# Altium schematic symbol library Sensor_Humidity.SchLib: 15 symbols
Pins are listed as number, name and electrical type; pins without a type are passive.

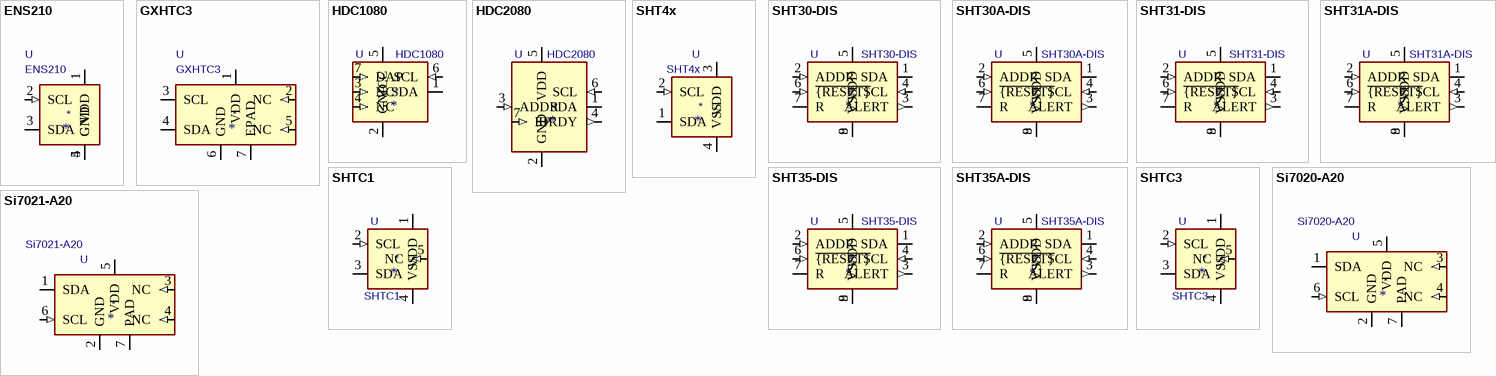
[diagram p0: symbols ENS210 to Si7021-A20]

## ENS210
designator *  value ENS210  Reference: U
Relative Humidity and Temperature Sensor with I2C Interface; ki_keywords: relative humidity temperature i2c pre-calibrated; ki_fp_filters: AMS?QFN*EP*2x2mm*P0.95mm*; Footprint: Package_DFN_QFN:AMS_QFN-4-1EP_2x2mm_P0.95mm_EP0.7x1.6mm; Datasheet: http://ams.com/eng/Products/Environmental-Sensors/Relative-Humidity-and-Temperature-Sensors/ENS210; Description_: Relative Humidity and Temperature Sensor with I2C Interface
pins: 1 VDD (power), 2 SCL (in), 3 SDA (io), 4 GND (power), 5 GND

## GXHTC3
designator *  value GXHTC3  Reference: U
Relative Humidity and Temperature Sensor, I2C Interface, 1.62..5.5V supply, DFN-6; ki_keywords: GXCAS pre-calibrated; ki_fp_filters: *DFN*2x2mm*P0.5mm*0.7x1.6mm*; Footprint: Package_DFN_QFN:DFN-6-1EP_2x2mm_P0.5mm_EP0.7x1.6mm; Datasheet: http://www.junmintech.com/UploadFiles/Product/20211129145204_37021.pdf; Description_: Relative Humidity and Temperature Sensor, I2C Interface, 1.62..5.5V supply, DFN-6
pins: 1 VDD (power), 2 NC (in), 3 SCL (io), 4 SDA (io), 5 NC (in), 6 GND (power), 7 EPAD

## HDC1080
designator *  value HDC1080  Reference: U
Low Power,High Accuracy Digital Humidity Sensor with Temperature Sensor; ki_keywords: Temperature Humidity Sensor; ki_fp_filters: Package*SON:Texas*PWSON*N6*; Footprint: Package_SON:Texas_PWSON-N6; Datasheet: http://www.ti.com/lit/ds/symlink/hdc1080.pdf; Description_: Low Power,High Accuracy Digital Humidity Sensor with Temperature Sensor
pins: 1 SDA (io), 2 GND (power), 3 NC (in), 4 NC (in), 5 VCC (power), 6 SCL (in), 7 DAP (in)

## HDC2080
designator *  value HDC2080  Reference: U
Low Power Humidity and Temperature Sensor; ki_keywords: Temperature Humidity Sensor; ki_fp_filters: Sensor*Humidity:Texas*S*PWSON*N6*HDC2080*; Footprint: Sensor_Humidity:Texas_S-PWSON-N6-HDC2080; Datasheet: http://www.ti.com/lit/ds/symlink/hdc2080.pdf; Description_: Low Power Humidity and Temperature Sensor
pins: 1 SDA (io), 2 GND (power), 3 ADDR (in), 4 DRDY (out), 5 VDD (power), 6 SCL (in), 7 EP (in)

## SHT4x
designator *  value SHT4x  Reference: U
Digital Humidity and Temperature Sensor, ±1%RH, ±0.1°C, I2C, 1.08-3.6V, 16bit, DFN-4; ki_keywords: Sensirion environment environmental measurement digital SHT40 SHT41 SHT45; ki_fp_filters: Sensirion?DFN*1.5x1.5mm*P0.8mm*SHT4x*; Footprint: Sensor_Humidity:Sensirion_DFN-4_1.5x1.5mm_P0.8mm_SHT4x_NoCentralPad; Datasheet: https://sensirion.com/media/documents/33FD6951/624C4357/Datasheet_SHT4x.pdf; Description_: Digital Humidity and Temperature Sensor, ±1%RH, ±0.1°C, I2C, 1.08-3.6V, 16bit, DFN-4
pins: 1 SDA (io), 2 SCL (in), 3 VDD (power), 4 VSS (power)

## SHT30-DIS
designator *  value SHT30-DIS  Reference: U
I²C humidity and temperature sensor, ±2%RH, ±0.2°C, DFN-8; ki_keywords: digital temperature humidity i2c; ki_fp_filters: Sensirion*DFN*1EP*2.5x2.5mm*P0.5mm*; Footprint: Sensor_Humidity:Sensirion_DFN-8-1EP_2.5x2.5mm_P0.5mm_EP1.1x1.7mm; Datasheet: https://www.sensirion.com/fileadmin/user_upload/customers/sensirion/Dokumente/2_Humidity_Sensors/Datasheets/Sensirion_Humidity_Sensors_SHT3x_Datasheet_digital.pdf; Description_: I²C humidity and temperature sensor, ±2%RH, ±0.2°C, DFN-8
pins: 1 SDA (io), 2 ADDR (in), 3 ALERT (out), 4 SCL (in), 5 VDD (power), 6 ~{{RESET}} (in), 7 R, 8 VSS (power), 9 VSS

## SHT30A-DIS
designator *  value SHT30A-DIS  Reference: U
I²C humidity and temperature sensor, ±3%RH, ±0.3°C, AEQ-100, DFN-8; ki_keywords: digital temperature humidity automotive i2c; ki_fp_filters: Sensirion*DFN*1EP*2.5x2.5mm*P0.5mm*; Footprint: Sensor_Humidity:Sensirion_DFN-8-1EP_2.5x2.5mm_P0.5mm_EP1.1x1.7mm; Datasheet: https://www.sensirion.com/fileadmin/user_upload/customers/sensirion/Dokumente/2_Humidity_Sensors/Datasheets/Sensirion_Humidity_Sensors_SHT3xA_Datasheet.pdf; Description_: I²C humidity and temperature sensor, ±3%RH, ±0.3°C, AEQ-100, DFN-8
pins: 1 SDA (io), 2 ADDR (in), 3 ALERT (out), 4 SCL (in), 5 VDD (power), 6 ~{{RESET}} (in), 7 R, 8 VSS (power), 9 VSS

## SHT31-DIS
designator *  value SHT31-DIS  Reference: U
I²C humidity and temperature sensor, ±2%RH, ±0.2°C, DFN-8; ki_keywords: digital temperature humidity i2c; ki_fp_filters: Sensirion*DFN*1EP*2.5x2.5mm*P0.5mm*; Footprint: Sensor_Humidity:Sensirion_DFN-8-1EP_2.5x2.5mm_P0.5mm_EP1.1x1.7mm; Datasheet: https://www.sensirion.com/fileadmin/user_upload/customers/sensirion/Dokumente/2_Humidity_Sensors/Datasheets/Sensirion_Humidity_Sensors_SHT3x_Datasheet_digital.pdf; Description_: I²C humidity and temperature sensor, ±2%RH, ±0.2°C, DFN-8
pins: 1 SDA (io), 2 ADDR (in), 3 ALERT (out), 4 SCL (in), 5 VDD (power), 6 ~{{RESET}} (in), 7 R, 8 VSS (power), 9 VSS

## SHT31A-DIS
designator *  value SHT31A-DIS  Reference: U
I²C humidity and temperature sensor, ±2%RH, ±0.3°C, AEQ-100, DFN-8; ki_keywords: digital temperature humidity automotive i2c; ki_fp_filters: Sensirion*DFN*1EP*2.5x2.5mm*P0.5mm*; Footprint: Sensor_Humidity:Sensirion_DFN-8-1EP_2.5x2.5mm_P0.5mm_EP1.1x1.7mm; Datasheet: https://www.sensirion.com/fileadmin/user_upload/customers/sensirion/Dokumente/2_Humidity_Sensors/Datasheets/Sensirion_Humidity_Sensors_SHT3xA_Datasheet.pdf; Description_: I²C humidity and temperature sensor, ±2%RH, ±0.3°C, AEQ-100, DFN-8
pins: 1 SDA (io), 2 ADDR (in), 3 ALERT (out), 4 SCL (in), 5 VDD (power), 6 ~{{RESET}} (in), 7 R, 8 VSS (power), 9 VSS

## SHT35-DIS
designator *  value SHT35-DIS  Reference: U
I²C humidity and temperature sensor, ±1.5%RH, ±0.1°C, DFN-8; ki_keywords: digital temperature humidity i2c; ki_fp_filters: Sensirion*DFN*1EP*2.5x2.5mm*P0.5mm*; Footprint: Sensor_Humidity:Sensirion_DFN-8-1EP_2.5x2.5mm_P0.5mm_EP1.1x1.7mm; Datasheet: https://www.sensirion.com/fileadmin/user_upload/customers/sensirion/Dokumente/2_Humidity_Sensors/Datasheets/Sensirion_Humidity_Sensors_SHT3x_Datasheet_digital.pdf; Description_: I²C humidity and temperature sensor, ±1.5%RH, ±0.1°C, DFN-8
pins: 1 SDA (io), 2 ADDR (in), 3 ALERT (out), 4 SCL (in), 5 VDD (power), 6 ~{{RESET}} (in), 7 R, 8 VSS (power), 9 VSS

## SHT35A-DIS
designator *  value SHT35A-DIS  Reference: U
I²C humidity and temperature sensor, ±1.5%RH, ±0.2°C, AEQ-100, DFN-8; ki_keywords: digital temperature humidity automotive i2c; ki_fp_filters: Sensirion*DFN*1EP*2.5x2.5mm*P0.5mm*; Footprint: Sensor_Humidity:Sensirion_DFN-8-1EP_2.5x2.5mm_P0.5mm_EP1.1x1.7mm; Datasheet: https://www.sensirion.com/fileadmin/user_upload/customers/sensirion/Dokumente/2_Humidity_Sensors/Datasheets/Sensirion_Humidity_Sensors_SHT3xA_Datasheet.pdf; Description_: I²C humidity and temperature sensor, ±1.5%RH, ±0.2°C, AEQ-100, DFN-8
pins: 1 SDA (io), 2 ADDR (in), 3 ALERT (out), 4 SCL (in), 5 VDD (power), 6 ~{{RESET}} (in), 7 R, 8 VSS (power), 9 VSS

## SHTC1
designator *  value SHTC1  Reference: U
Humidity and Temperature Sensor, ±3%RH, ±0.3°C, I2C, 1.62-1.98V, DFN-4; ki_keywords: Sensirion environment environmental measurement digital; ki_fp_filters: Sensirion*DFN*1EP*2x2mm*P1mm*EP0.7x1.6mm*; Footprint: Sensor_Humidity:Sensirion_DFN-4-1EP_2x2mm_P1mm_EP0.7x1.6mm; Datasheet: https://www.sensirion.com/fileadmin/user_upload/customers/sensirion/Dokumente/0_Datasheets/Humidity/Sensirion_Humidity_Sensors_SHTC1_Datasheet.pdf; Description_: Humidity and Temperature Sensor, ±3%RH, ±0.3°C, I2C, 1.62-1.98V, DFN-4
pins: 1 VDD (power), 2 SCL (in), 3 SDA (io), 4 VSS (power), 5 NC (in)

## SHTC3
designator *  value SHTC3  Reference: U
Humidity and Temperature Sensor, ±2%RH, ±0.2°C, I2C, 1.62-3.6V, DFN-4; ki_keywords: Sensirion environment environmental measurement digital; ki_fp_filters: Sensirion*DFN*1EP*2x2mm*P1mm*EP0.7x1.6mm*; Footprint: Sensor_Humidity:Sensirion_DFN-4-1EP_2x2mm_P1mm_EP0.7x1.6mm; Datasheet: https://www.sensirion.com/fileadmin/user_upload/customers/sensirion/Dokumente/0_Datasheets/Humidity/Sensirion_Humidity_Sensors_SHTC3_Datasheet.pdf; Description_: Humidity and Temperature Sensor, ±2%RH, ±0.2°C, I2C, 1.62-3.6V, DFN-4
pins: 1 VDD (power), 2 SCL (in), 3 SDA (io), 4 VSS (power), 5 NC (in)

## Si7020-A20
designator *  value Si7020-A20  Reference: U
I2C Humidity and Temperature Sensor, DFN-6; ki_keywords: I2C Humidity Temperature Sensor; ki_fp_filters: DFN*1EP*3x3mm*P1mm*; Footprint: Package_DFN_QFN:DFN-6-1EP_3x3mm_P1mm_EP1.5x2.4mm; Datasheet: https://www.silabs.com/documents/public/data-sheets/Si7020-A20.pdf; Description_: I2C Humidity and Temperature Sensor, DFN-6
pins: 1 SDA (io), 2 GND (power), 3 NC (in), 4 NC (in), 5 VDD (power), 6 SCL (in), 7 PAD

## Si7021-A20
designator *  value Si7021-A20  Reference: U
I2C Humidity and Temperature Sensor, DFN-6; ki_keywords: I2C Humidity Temperature Sensor; ki_fp_filters: DFN*1EP*3x3mm*P1mm*; Footprint: Package_DFN_QFN:DFN-6-1EP_3x3mm_P1mm_EP1.5x2.4mm; Datasheet: https://www.silabs.com/documents/public/data-sheets/Si7021-A20.pdf; Description_: I2C Humidity and Temperature Sensor, DFN-6
pins: 1 SDA (io), 2 GND (power), 3 NC (in), 4 NC (in), 5 VDD (power), 6 SCL (in), 7 PAD